# EAGLE library part DORJI_DRA818V (library Ava)
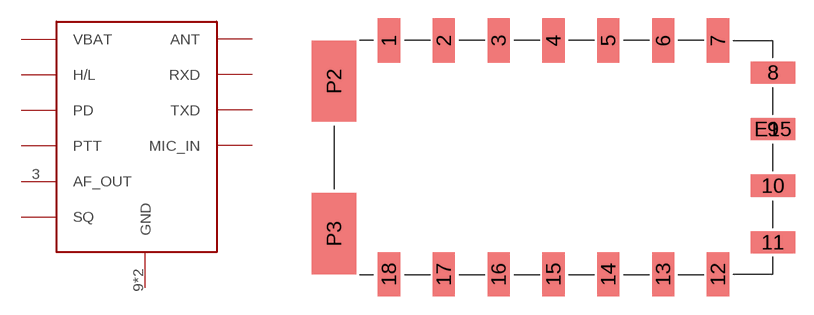
[diagram p54: symbol with the pads of DORJI_DRA818V; footprint DORJI_DRA818V]

Designator prefix -

## DORJI_DRA818V  [DORJI_DRA818V]
1  SQ  out
3  AF_OUT  out
5  PTT  in
6  PD  in
7  H/L  in
8  VBAT  pwr
9  GND  pwr
10  GND  pwr
12  ANT
16  RXD  in
17  TXD  out
18  MIC_IN  in

## Footprint DORJI_DRA818V (pad centres in mm)
smd 1.8 x 3.6: 1 4.45,9.5; 2 8.9,9.5; 3 13.35,9.5; 4 17.8,9.5; 5 22.25,9.5; 6 26.7,9.5; 7 31.15,9.5; 12 31.15,-9.5; 13 26.7,-9.5; 14 22.25,-9.5; 15 17.8,-9.5; 16 13.35,-9.5; 17 8.9,-9.5; 18 4.45,-9.5
smd 3.6 x 1.8: 8 35.6,6.9; 9 35.6,2.3; 10 35.6,-2.3; 11 35.6,-6.9; E15 35.6,2.3
smd 3.6 x 6.6: P2 0,6.2; P3 0,-6.2